# EAGLE library part F-2X07- (library con-headers-jp)
FEMALE HEADER
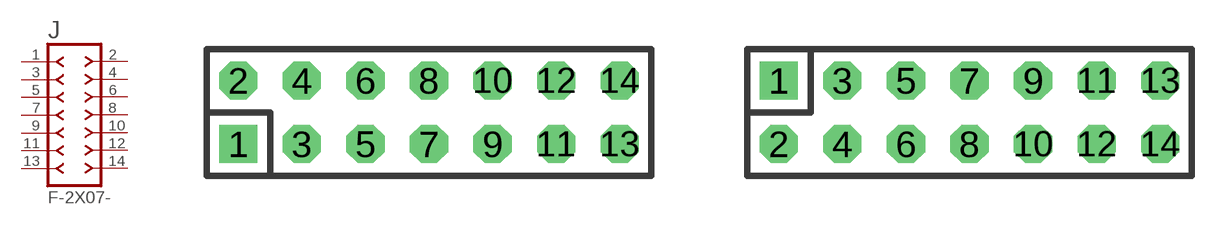
[diagram p36: symbol with the pads of DIL-100-2X07; footprints DIL-100-2X07, DIL-100-2X07_M]

Designator prefix J

## F-2X07-DIL-100  [DIL-100-2X07]
1  1  pas
2  2  pas
3  3  pas
4  4  pas
5  5  pas
6  6  pas
7  7  pas
8  8  pas
9  9  pas
10  10  pas
11  11  pas
12  12  pas
13  13  pas
14  14  pas

## F-2X07-DIL-100_M  [DIL-100-2X07_M]
Pads as for DIL-100-2X07

## F-2X07-DIL-2MM  [DIL-2MM-2X07]
Pads as for DIL-100-2X07

## F-2X07-DIL-2MM_M  [DIL-2MM-2X07_M]
Pads as for DIL-100-2X07

## F-2X07-71991  [71991-14]
Pads as for DIL-100-2X07

## F-2X07-79107  [79107-14]
Pads as for DIL-100-2X07

## F-2X07-79107_M  [79107-14_M]
Pads as for DIL-100-2X07

## F-2X07-534267-14  [534267-14]
Pads as for DIL-100-2X07

## F-2X07-534267-14_M  [534267-14_M]
Pads as for DIL-100-2X07

## Footprint DIL-100-2X07 (pad centres in mm)
PIN HEADER - 0.1"
drill 1.016 square: 1 -7.62,-1.27
drill 1.016 octagon: 2 -7.62,1.27; 3 -5.08,-1.27; 4 -5.08,1.27; 5 -2.54,-1.27; 6 -2.54,1.27; 7 0,-1.27; 8 0,1.27; 9 2.54,-1.27; 10 2.54,1.27; 11 5.08,-1.27; 12 5.08,1.27; 13 7.62,-1.27; 14 7.62,1.27

## Footprint DIL-100-2X07_M (pad centres in mm)
PIN HEADER - MIRRORED 0.1"
drill 1.016 square: 1 -7.62,1.27
drill 1.016 octagon: 2 -7.62,-1.27; 3 -5.08,1.27; 4 -5.08,-1.27; 5 -2.54,1.27; 6 -2.54,-1.27; 7 0,1.27; 8 0,-1.27; 9 2.54,1.27; 10 2.54,-1.27; 11 5.08,1.27; 12 5.08,-1.27; 13 7.62,1.27; 14 7.62,-1.27

## Footprint DIL-2MM-2X07 (pad centres in mm)
PIN HEADER - 2MM"
drill 0.711 pad 1.321 square: 1 -6,-1
drill 0.711 pad 1.321: 2 -6,1; 3 -4,-1; 4 -4,1; 5 -2,-1; 6 -2,1; 7 0,-1; 8 0,1; 9 2,-1; 10 2,1; 11 4,-1; 12 4,1; 13 6,-1; 14 6,1

## Footprint DIL-2MM-2X07_M (pad centres in mm)
PIN HEADER - MIRRORED 2MM
drill 0.711 pad 1.321 square: 1 -6,1
drill 0.711 pad 1.321: 2 -6,-1; 3 -4,1; 4 -4,-1; 5 -2,1; 6 -2,-1; 7 0,1; 8 0,-1; 9 2,1; 10 2,-1; 11 4,1; 12 4,-1; 13 6,1; 14 6,-1

## Footprint 71991-14 (pad centres in mm)
FCI - Dual Entry Female Pass Through, 0.1" spacing
drill 0.813 square: 1 -7.62,-3.81
drill 0.813 octagon: 2 -7.62,3.81; 3 -5.08,-3.81; 4 -5.08,3.81; 5 -2.54,-3.81; 6 -2.54,3.81; 7 0,-3.81; 8 0,3.81; 9 2.54,-3.81; 10 2.54,3.81; 11 5.08,-3.81; 12 5.08,3.81; 13 7.62,-3.81; 14 7.62,3.81
hole 1.422 at -7.62,-1.27
hole 1.422 at -7.62,1.27
hole 1.422 at -5.08,1.27
hole 1.422 at -5.08,-1.27
hole 1.422 at -2.54,1.27
hole 1.422 at -2.54,-1.27
hole 1.422 at 0,1.27
hole 1.422 at 0,-1.27
hole 1.422 at 2.54,1.27
hole 1.422 at 2.54,-1.27
hole 1.422 at 5.08,1.27
hole 1.422 at 5.08,-1.27
hole 1.422 at 7.62,1.27
hole 1.422 at 7.62,-1.27

## Footprint 79107-14 (pad centres in mm)
Molex Board-To-Board Receptacal 2.00mm (.079") Pitch Milli-Grid Header, Vertical, Through-Hole Mates with: 87759, 87762, 87758, 87760
drill 0.711 square: 1 -6,-1
drill 0.711: 2 -6,1; 3 -4,-1; 4 -4,1; 5 -2,-1; 6 -2,1; 7 0,-1; 8 0,1; 9 2,-1; 10 2,1; 11 4,-1; 12 4,1; 13 6,-1; 14 6,1

## Footprint 79107-14_M (pad centres in mm)
Molex Board-To-Board Receptacal - MIRRORED 2.00mm (.079") Pitch Milli-Grid Header, Vertical, Through-Hole Mates with: 87759, 87762, 87758, 87760
drill 0.711 square: 1 -6,1
drill 0.711: 2 -6,-1; 3 -4,1; 4 -4,-1; 5 -2,1; 6 -2,-1; 7 0,1; 8 0,-1; 9 2,1; 10 2,-1; 11 4,1; 12 4,-1; 13 6,1; 14 6,-1

## Footprint 534267-14 (pad centres in mm)
AMPMODU - 534267 Series
drill 0.914 pad 1.676 square: 1 -7.62,-3.81
drill 0.914 pad 1.676 octagon: 2 -7.62,3.81; 3 -5.08,-3.81; 4 -5.08,3.81; 5 -2.54,-3.81; 6 -2.54,3.81; 7 0,-3.81; 8 0,3.81; 9 2.54,-3.81; 10 2.54,3.81; 11 5.08,-3.81; 12 5.08,3.81; 13 7.62,-3.81; 14 7.62,3.81
hole 1.422 at -7.62,-1.27
hole 1.422 at -7.62,1.27
hole 1.422 at -5.08,1.27
hole 1.422 at -5.08,-1.27
hole 1.422 at -2.54,1.27
hole 1.422 at -2.54,-1.27
hole 1.422 at 0,1.27
hole 1.422 at 0,-1.27
hole 1.422 at 2.54,1.27
hole 1.422 at 2.54,-1.27
hole 1.422 at 5.08,1.27
hole 1.422 at 5.08,-1.27
hole 1.422 at 7.62,1.27
hole 1.422 at 7.62,-1.27

## Footprint 534267-14_M (pad centres in mm)
AMPMODU - 534267 Series (MIRRORED PADS)
drill 0.914 pad 1.676 square: 1 -7.62,3.81
drill 0.914 pad 1.676 octagon: 2 -7.62,-3.81; 3 -5.08,3.81; 4 -5.08,-3.81; 5 -2.54,3.81; 6 -2.54,-3.81; 7 0,3.81; 8 0,-3.81; 9 2.54,3.81; 10 2.54,-3.81; 11 5.08,3.81; 12 5.08,-3.81; 13 7.62,3.81; 14 7.62,-3.81
hole 1.422 at -7.62,-1.27
hole 1.422 at -7.62,1.27
hole 1.422 at -5.08,1.27
hole 1.422 at -5.08,-1.27
hole 1.422 at -2.54,1.27
hole 1.422 at -2.54,-1.27
hole 1.422 at 0,1.27
hole 1.422 at 0,-1.27
hole 1.422 at 2.54,1.27
hole 1.422 at 2.54,-1.27
hole 1.422 at 5.08,1.27
hole 1.422 at 5.08,-1.27
hole 1.422 at 7.62,1.27
hole 1.422 at 7.62,-1.27